# Altium footprint library Old Gate Driver Design.PcbLib: 32 footprints (part 1 of 2)
Each footprint in its own frame and in the unit in brackets; x right, y up, seen from the top. Pads: shape width x height; smd on the part's side, far side on the other; paste and mask are expansions set on the pad; w line width, h text height; cw(c..) or ccw(c..) is an arc to the next point about the centre after c.
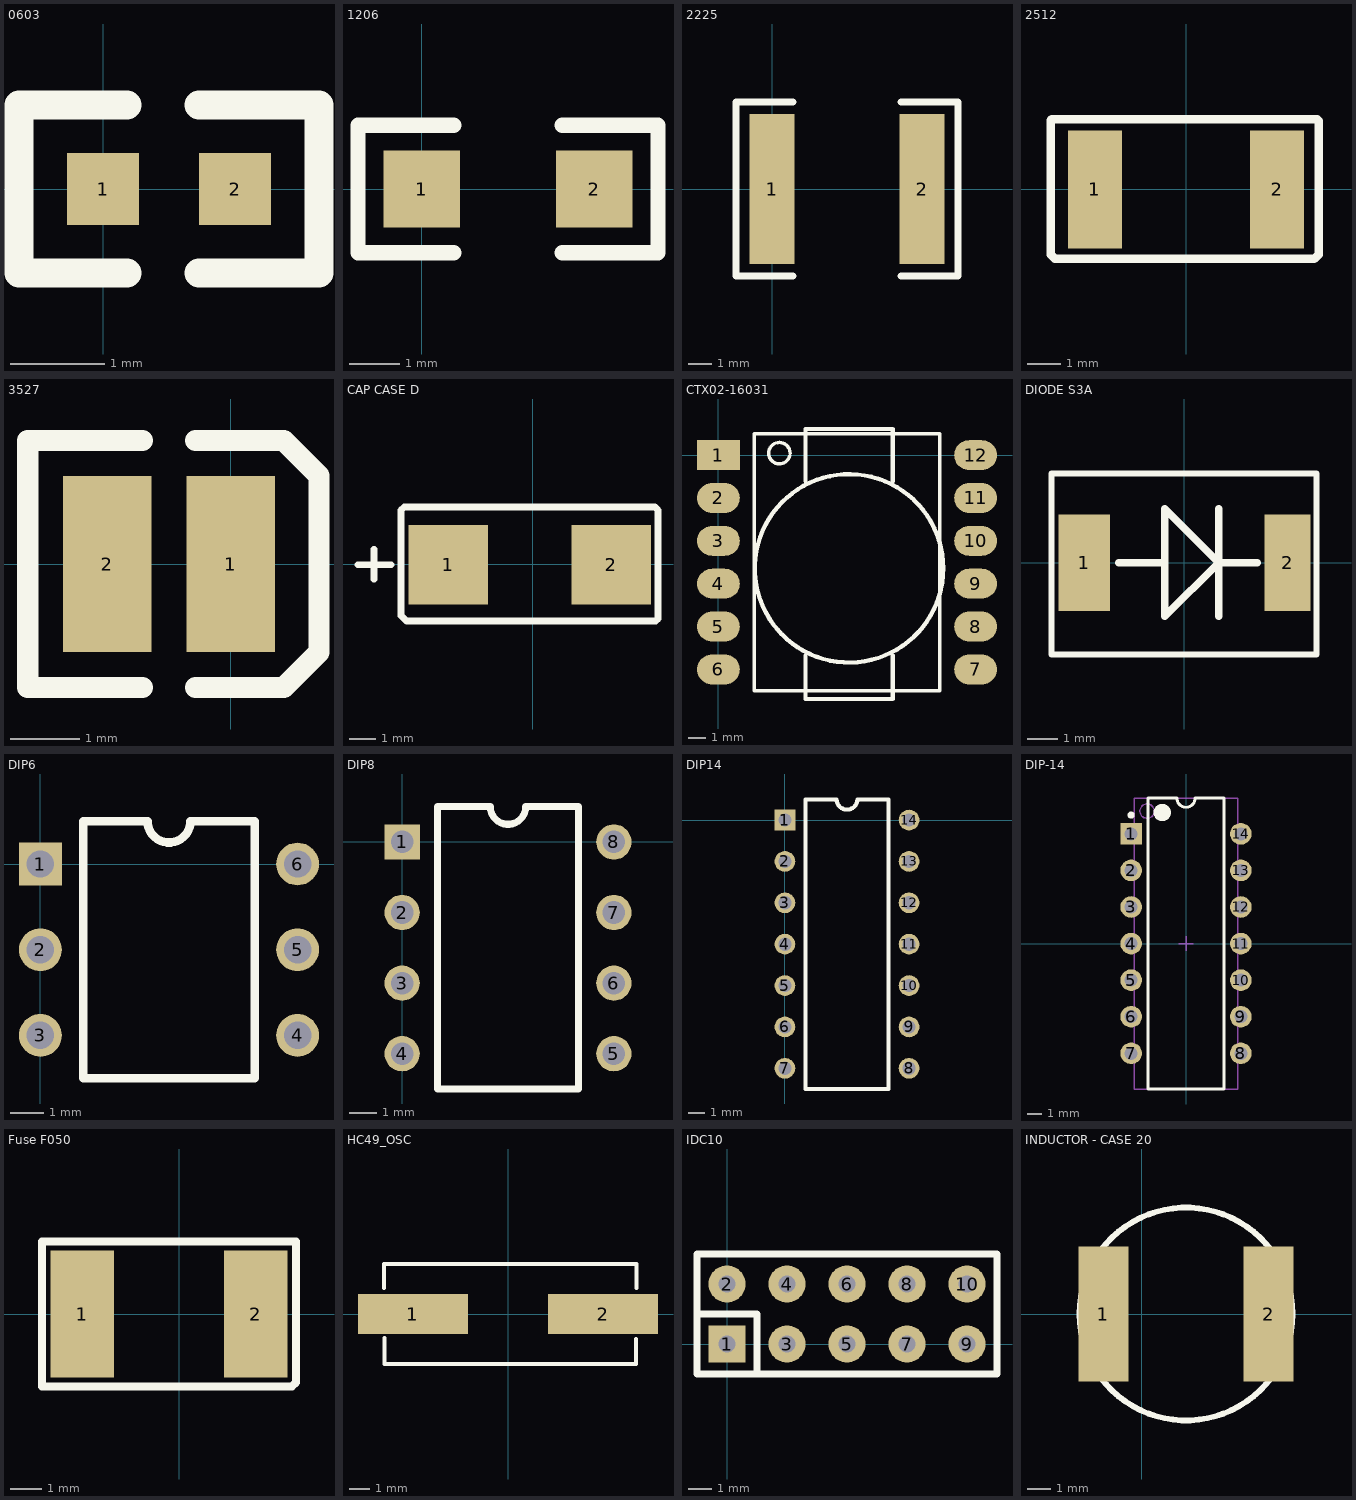
[diagram p0: the footprints below, top view; thin cyan lines are the x and y axes]

## 0603 [mil]
pads (2):
  rect 30x30 smd: 1(0,0) 2(55,0)
Top Overlay:
  lines w12: 10,-35 -35,-35 -35,35 10,35 ; 40,-35 90,-35 90,35 40,35

## 1206 [mil]
pads (2):
  rect 60x60 smd: 1(0,0) 2(135,0)
Top Overlay:
  lines w12: 25,-50 -50,-50 -50,50 25,50 ; 110,-50 185,-50 185,50 110,50

## 2225 [mil]
pads (2):
  rect 75x250 smd: 1(0,0) 2(250,0)
Top Overlay:
  lines w12: 35,-145 -60,-145 -60,145 35,145 ; 215,-145 310,-145 310,145 215,145

## 2512 [mm]
pads (2):
  rect 1.6x3.5 smd: 1(-2.7,0) 2(2.7,0)
Top Overlay:
  lines w0.254: -4.013,-1.93 -4.013,2.057 -3.988,2.083 3.886,2.083 3.937,2.032 3.937,-1.93 3.81,-2.057 -3.886,-2.057 -4.013,-1.93

## 3527 [mil]
pads (2):
  rect 50x100 smd: 1(0,0) 2(-70,0)
Top Overlay:
  lines w12: -50,-70 -115,-70 -115,70 -50,70 ; -20,-70 30,-70 50,-50 50,50 30,70 -20,70

## CAP CASE D [mm]
pads (2):
  rect 3x3 smd: 1(-3.188,-0.01) 2(2.967,-0.025)
Top Overlay:
  lines w0.254: -6.599,-0.018 -5.354,-0.018 ; -5.994,-0.564 -5.994,0.564 ; -4.971,-1.941 -4.768,-2.144 -3.625,-2.144 3.574,-2.144 4.648,-2.144 4.732,-2.06 4.732,2.042 4.615,2.159 3.353,2.159 -3.625,2.164 -4.849,2.164 -4.971,2.042 -4.971,-1.941

## CTX02-16031 [mm]
pads (12):
  rect 2.5x1.75 smd: 1(0,0)
  oval 2.5x1.75 smd: 2(0,-2.5) 3(0,-5) 4(0,-7.5) 5(0,-10) 6(0,-12.5) 7(15,-12.5) 8(15,-10) 9(15,-7.5) 10(15,-5) 11(15,-2.5) 12(15,0)
Top Overlay:
  circle w0.254: c7.62,-6.604 r5.495
  lines w0.2: 4.165,-0.023 cw(c3.556,0.117) 4.181,0.117 ; 8.125,1.25 12.915,1.25 12.915,-13.75 2.085,-13.75 2.085,1.25 8.128,1.25
  lines w0.254: 5.08,-11.684 5.08,-14.224 10.16,-14.224 10.16,-11.684 ; 5.08,-1.524 5.08,1.524 6.096,1.524 ; 5.588,1.524 10.16,1.524 10.16,-1.524

## DIODE S3A [mm]
pads (2):
  rect 1.7x3.2 smd: 1(-3.302,0)
  rect 1.52x3.2 smd: 2(3.429,0)
Top Overlay:
  lines w0.2: -4.385,0 -4.384,2.946 4.389,2.946 4.389,-3.035 -4.384,-3.035 -4.385,0
  lines w0.254: -2.159,0 -0.635,0 ; 1.143,-1.778 1.143,0 ; 1.143,1.778 1.143,0 ; 2.413,0 1.143,0 ; 1.143,0 -0.635,-1.778 -0.635,1.778 1.143,0

## DIP6 [mil]
pads (6):
  rect 50x50 hole 32: 1(0,0)
  round 50 hole 32: 2(0,-100) 3(0,-200) 4(300,-200) 5(300,-100) 6(300,0)
Top Overlay:
  lines w10: 50,-250 250,-250 250,50 175,50 cw(c150,50) 125,50 50,50 50,-250

## DIP8 [mil]
pads (8):
  rect 50x50 hole 32: 1(0,0)
  round 50 hole 32: 2(0,-100) 3(0,-200) 4(0,-300) 5(300,-300) 6(300,-200) 7(300,-100) 8(300,0)
Top Overlay:
  lines w10: 50,-350 50,50 125,50 ccw(c150,50) 175,50 250,50 250,-350 50,-350

## DIP14 [mil]
pads (14):
  rect 50x50 hole 32: 1(0,0)
  round 50 hole 32: 2(0,-100) 3(0,-200) 4(0,-300) 5(0,-400) 6(0,-500) 7(0,-600) 8(300,-600) 9(300,-500) 10(300,-400) 11(300,-300) 12(300,-200) 13(300,-100) 14(300,0)
Top Overlay:
  lines w10: 50,-650 250,-650 250,50 175,50 cw(c150,50) 125,50 50,50 50,-650

## DIP-14 [mm] "DIP; 14 Leads; Row Spacing 7.62 mm; Pitch 2.54 mm"
height 5.08
pads (14):
  rect 1.5x1.5 hole 0.9: 1(-3.81,7.62)
  round 1.5 hole 0.9: 2(-3.81,5.08) 3(-3.81,2.54) 4(-3.81,0) 5(-3.81,-2.54) 6(-3.81,-5.08) 7(-3.81,-7.62) 8(3.81,-7.62) 9(3.81,-5.08) 10(3.81,-2.54) 11(3.81,0) 12(3.81,2.54) 13(3.81,5.08) 14(3.81,7.62)
Top Overlay:
  circle w0.6: c-1.65,9.1 r0.3
  circle w0.25: c-3.81,8.92 r0.125
  lines w0.2: -2.65,-10.1 2.65,-10.1 2.65,10.1 0.635,10.1 cw(c0,10.1) -0.635,10.1 -2.65,10.1 -2.65,-10.1
Mechanical 13:
  circle w0.1: c-2.7,9.2 r0.5
  lines w0.1: -3.6,-10.1 3.6,-10.1 3.6,10.1 -3.6,10.1 -3.6,-10.1
Mechanical 15:
  lines w0.1: -0.5,0 0.5,0 ; 0,-0.5 0,0.5
3D body: height 5.08, standoff 0, extent -3.6,-10.1 3.6,10.1

## Fuse F050 [mm]
pads (2):
  rect 2x4 smd: 1(-3.048,0) 2(2.413,0)
Top Overlay:
  lines w0.254: -4.318,-2.286 3.556,-2.286 3.683,-2.159 3.683,2.286 -4.318,2.286 -4.318,-2.286

## HC49_OSC [mm]
pads (2):
  rect 5.5x2 smd: 1(-4.75,0) 2(4.75,0)
Top Overlay:
  lines w0.2: -6.198,1.295 -6.198,2.5 6.426,2.5 6.426,1.295 ; -6.172,-1.208 -6.172,-2.5 6.401,-2.5 6.401,-1.245

## IDC10 [mil]
pads (10):
  rect 62x62 hole 28: 1(0,0)
  round 62 hole 28: 2(0,100) 3(100,0) 4(100,100) 5(200,0) 6(200,100) 7(300,0) 8(300,100) 9(400,0) 10(400,100)
Top Overlay:
  lines w12: -50,50 50,50 50,-50 ; -50,-50 -50,150 450,150 450,-50 -50,-50

## INDUCTOR - CASE 20 [mm]
pads (2):
  rect 2.15x5.8 smd: 1(-1.651,0) 2(5.461,0)
Top Overlay:
  circle w0.254: c1.905,0 r4.581